# Altium footprint library CAPR1500-800x1750x1500.PcbLib: 1 footprints
Each footprint in its own frame and in the unit in brackets; x right, y up, seen from the top. Pads: shape width x height; smd on the part's side, far side on the other; paste and mask are expansions set on the pad; w line width, h text height; cw(c..) or ccw(c..) is an arc to the next point about the centre after c.
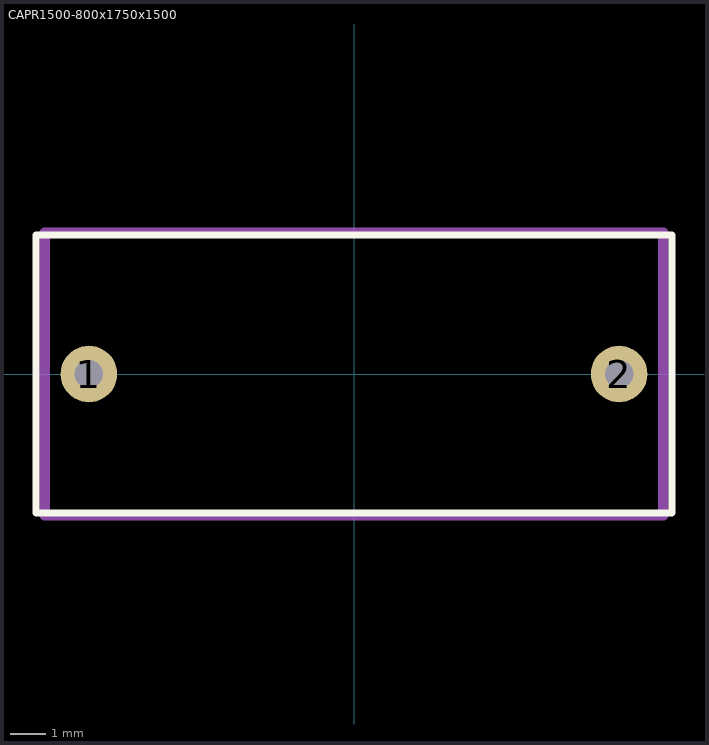
[diagram p0: the footprint, top view; thin cyan lines are the x and y axes]

## CAPR1500-800x1750x1500 [mm] "CAPR_pin_space-deep_x_weidth_x_height"
pads (2):
  round 1.6 hole 0.8: 1(-7.5,0) 2(7.5,0)
Top Overlay:
  lines w0.2: -9,-3.937 9,-3.937 9,3.937 -9,3.937 -9,-3.937
Mechanical 13:
  lines w0.3: -8.75,-4 8.75,-4 8.75,4 -8.75,4 -8.75,-4
  text ".Designator" at -3.302,-0.254 h1.52
3D body: height 17, standoff -1, extent -8.75,-4 8.75,4